# Altium schematic symbol library SCH - MCU - SI LABS - SI LABS WGM160PX22KGA3 55-PIN LGA 14X24.SchLib: 1 symbol
Pins are listed as number, name and electrical type; pins without a type are passive.

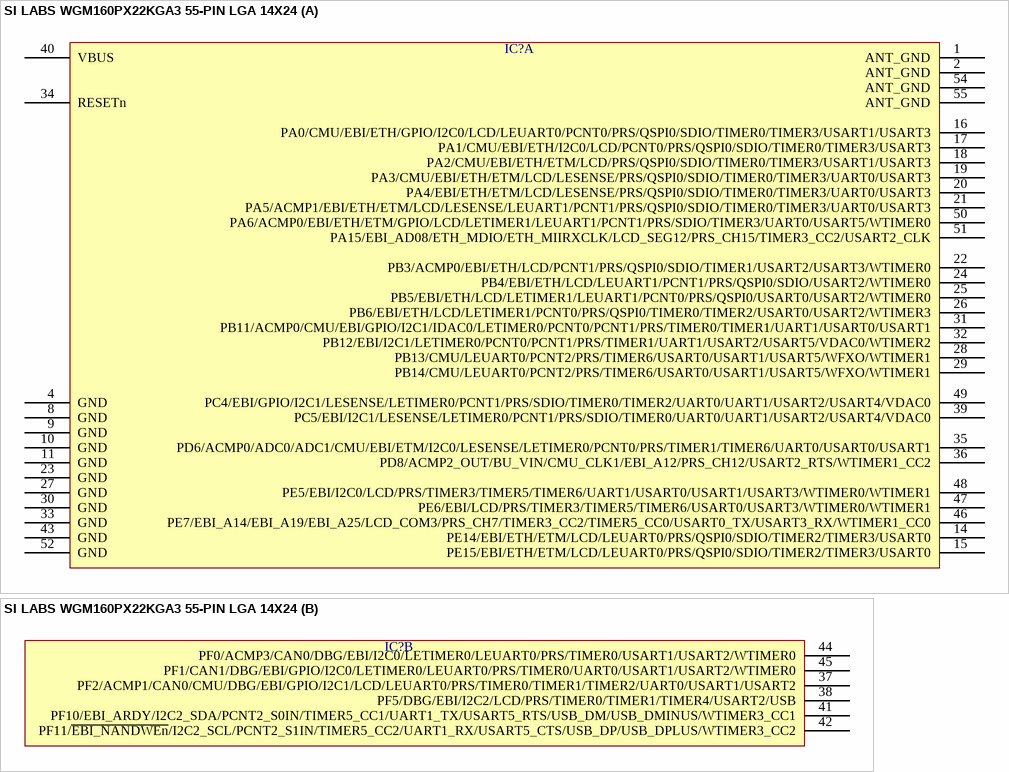
[diagram p0: symbol SI LABS WGM160PX22KGA3 55-PIN LGA 14X24]

## SI LABS WGM160PX22KGA3 55-PIN LGA 14X24
designator IC?  (value not drawn)
part A pins: 1 ANT_GND, 2 ANT_GND, 4 GND, 8 GND, 9 GND, 10 GND, 11 GND, 14 PE14/EBI/ETH/ETM/LCD/LEUART0/PRS/QSPI0/SDIO/TIMER2/TIMER3/USART0, 15 PE15/EBI/ETH/ETM/LCD/LEUART0/PRS/QSPI0/SDIO/TIMER2/TIMER3/USART0, 16 PA0/CMU/EBI/ETH/GPIO/I2C0/LCD/LEUART0/PCNT0/PRS/QSPI0/SDIO/TIMER0/TIMER3/USART1/USART3, 17 PA1/CMU/EBI/ETH/I2C0/LCD/PCNT0/PRS/QSPI0/SDIO/TIMER0/TIMER3/USART3, 18 PA2/CMU/EBI/ETH/ETM/LCD/PRS/QSPI0/SDIO/TIMER0/TIMER3/USART1/USART3, 19 PA3/CMU/EBI/ETH/ETM/LCD/LESENSE/PRS/QSPI0/SDIO/TIMER0/TIMER3/UART0/USART3, 20 PA4/EBI/ETH/ETM/LCD/LESENSE/PRS/QSPI0/SDIO/TIMER0/TIMER3/UART0/USART3, 21 PA5/ACMP1/EBI/ETH/ETM/LCD/LESENSE/LEUART1/PCNT1/PRS/QSPI0/SDIO/TIMER0/TIMER3/UART0/USART3, 22 PB3/ACMP0/EBI/ETH/LCD/PCNT1/PRS/QSPI0/SDIO/TIMER1/USART2/USART3/WTIMER0, 23 GND, 24 PB4/EBI/ETH/LCD/LEUART1/PCNT1/PRS/QSPI0/SDIO/USART2/WTIMER0, 25 PB5/EBI/ETH/LCD/LETIMER1/LEUART1/PCNT0/PRS/QSPI0/USART0/USART2/WTIMER0, 26 PB6/EBI/ETH/LCD/LETIMER1/PCNT0/PRS/QSPI0/TIMER0/TIMER2/USART0/USART2/WTIMER3, 27 GND, 28 PB13/CMU/LEUART0/PCNT2/PRS/TIMER6/USART0/USART1/USART5/WFXO/WTIMER1, 29 PB14/CMU/LEUART0/PCNT2/PRS/TIMER6/USART0/USART1/USART5/WFXO/WTIMER1, 30 GND, 31 PB11/ACMP0/CMU/EBI/GPIO/I2C1/IDAC0/LETIMER0/PCNT0/PCNT1/PRS/TIMER0/TIMER1/UART1/USART0/USART1, 32 PB12/EBI/I2C1/LETIMER0/PCNT0/PCNT1/PRS/TIMER1/UART1/USART2/USART5/VDAC0/WTIMER2, 33 GND, 34 RESETn, 35 PD6/ACMP0/ADC0/ADC1/CMU/EBI/ETM/I2C0/LESENSE/LETIMER0/PCNT0/PRS/TIMER1/TIMER6/UART0/USART0/USART1, 36 PD8/ACMP2_OUT/BU_VIN/CMU_CLK1/EBI_A12/PRS_CH12/USART2_RTS/WTIMER1_CC2, 39 PC5/EBI/I2C1/LESENSE/LETIMER0/PCNT1/PRS/SDIO/TIMER0/UART0/UART1/USART2/USART4/VDAC0, 40 VBUS, 43 GND, 46 PE7/EBI_A14/EBI_A19/EBI_A25/LCD_COM3/PRS_CH7/TIMER3_CC2/TIMER5_CC0/USART0_TX/USART3_RX/WTIMER1_CC0, 47 PE6/EBI/LCD/PRS/TIMER3/TIMER5/TIMER6/USART0/USART3/WTIMER0/WTIMER1, 48 PE5/EBI/I2C0/LCD/PRS/TIMER3/TIMER5/TIMER6/UART1/USART0/USART1/USART3/WTIMER0/WTIMER1, 49 PC4/EBI/GPIO/I2C1/LESENSE/LETIMER0/PCNT1/PRS/SDIO/TIMER0/TIMER2/UART0/UART1/USART2/USART4/VDAC0, 50 PA6/ACMP0/EBI/ETH/ETM/GPIO/LCD/LETIMER1/LEUART1/PCNT1/PRS/SDIO/TIMER3/UART0/USART5/WTIMER0, 51 PA15/EBI_AD08/ETH_MDIO/ETH_MIIRXCLK/LCD_SEG12/PRS_CH15/TIMER3_CC2/USART2_CLK, 52 GND, 54 ANT_GND, 55 ANT_GND
part B pins: 37 PF2/ACMP1/CAN0/CMU/DBG/EBI/GPIO/I2C1/LCD/LEUART0/PRS/TIMER0/TIMER1/TIMER2/UART0/USART1/USART2, 38 PF5/DBG/EBI/I2C2/LCD/PRS/TIMER0/TIMER1/TIMER4/USART2/USB, 41 PF10/EBI_ARDY/I2C2_SDA/PCNT2_S0IN/TIMER5_CC1/UART1_TX/USART5_RTS/USB_DM/USB_DMINUS/WTIMER3_CC1, 42 PF11/~{EBI_NANDWEn}/I2C2_SCL/PCNT2_S1IN/TIMER5_CC2/UART1_RX/USART5_CTS/USB_DP/USB_DPLUS/WTIMER3_CC2, 44 PF0/ACMP3/CAN0/DBG/EBI/I2C0/LETIMER0/LEUART0/PRS/TIMER0/USART1/USART2/WTIMER0, 45 PF1/CAN1/DBG/EBI/GPIO/I2C0/LETIMER0/LEUART0/PRS/TIMER0/UART0/USART1/USART2/WTIMER0